# EAGLE library part MP6602 (library wheat)
MPS MP6602 Stepper Motor Driver
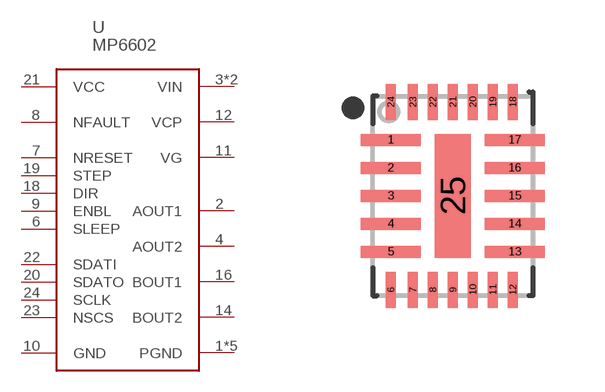
[diagram p280: symbol with the pads of FCQFN25_MPS; footprint FCQFN25_MPS]

Designator prefix U

## MP6602GV  [FCQFN25_MPS]
1  PGND
2  AOUT1
3  VIN
4  AOUT2
5  PGND
6  SLEEP
7  NRESET
8  NFAULT
9  ENBL
10  GND
11  VG
12  VCP
13  PGND
14  BOUT2
15  VIN
16  BOUT1
17  PGND
18  DIR
19  STEP
20  SDATO
21  VCC
22  SDATI
23  NSCS
24  SCLK
25  PGND

## Footprint FCQFN25_MPS (pad centres in mm)
smd 1.5 x 0.3: 1 -1.55,1.4; 2 -1.55,0.7; 3 -1.55,0; 4 -1.55,-0.7; 5 -1.55,-1.4; 13 1.55,-1.4; 14 1.55,-0.7; 15 1.55,0; 16 1.55,0.7; 17 1.55,1.4
smd 0.25 x 0.9: 6 -1.55,-2.35; 7 -1,-2.35; 8 -0.5,-2.35; 9 0,-2.35; 10 0.5,-2.35; 11 1,-2.35; 12 1.5,-2.35; 18 1.5,2.35; 19 1,2.35; 20 0.5,2.35; 21 0,2.35; 22 -0.5,2.35; 23 -1,2.35; 24 -1.55,2.35
smd 0.9 x 3.1: 25 0,0